# Altium schematic symbol library TMC2209.SchLib: 1 symbol
Pins are listed as number, name and electrical type; pins without a type are passive.

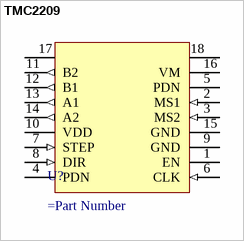
[diagram p0: symbol TMC2209]

## TMC2209
designator U?
=Description
footprint TMC2209
pins: 1 EN, 2 MS1 (in), 3 MS2 (in), 4 PDN, 5 PDN, 6 CLK (in), 7 STEP (in), 8 DIR (in), 9 GND (power), 10 VDD (power), 11 B2 (out), 12 B1 (out), 13 A1 (out), 14 A2 (out), 15 GND (power), 16 VM (power), 17, 18